# EAGLE library part 6861XX188822_686106188822 (library 68611414422)
WR-FPC 1.00 mm SMT LIF Vertical Type A KIND PROPERTIES Pitch 1 mm MATERIAL PROPERTIES Insulator Material LCP Contact Material Phosphor Bronze Contact Plating 2.032µm Tin over 1.27µm Nickel Contact Type Stamped <https://www.we-online.com/catalog/media/o162364v209%20Family_ConFPC_686126188822.jpg> Details see: https://www.we-online.com/catalog/en/em/FPC_1_00_SMT_LIF_VERTICAL_6861xx188822 Updated by Ella Wu 2020-08-25 2020(C) Wurth Elektronik
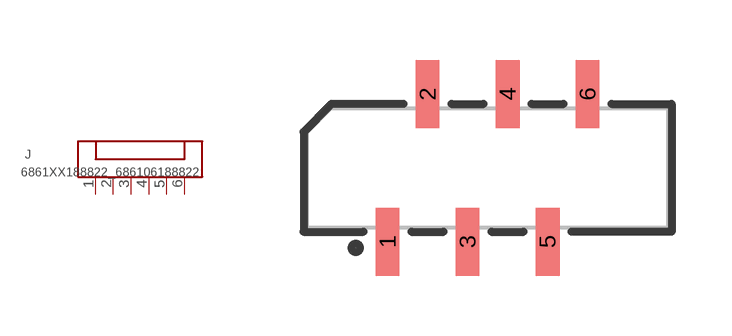
[diagram p124: symbol with the pads of 686106188822; footprint 686106188822]

Designator prefix J

## 6861XX188822_686106188822 (CONTACT-RESISTANCE: 30mOhm; DATASHEET-URL: https://www.we-online.com/catalog/datasheet/686106188822.pdf; IR: 1A; L: 9mm; PACKAGING: Tape and Reel & Mylar; PART-NUMBER: 686106188822; PINS: 6; PITCH: 1mm; TYPE: Vertical; VALUE: 686106188822; WORKING-VOLTAGE: 125V(AC))  [686106188822]
1  1  pas
2  2  pas
3  3  pas
4  4  pas
5  5  pas
6  6  pas

## Footprint 686106188822 (pad centres in mm)
WR-FPC 1.00 mm SMT LIF Vertical Type A,6 Pins
smd 0.6 x 1.7: 1 -2.5,-1.85; 2 -1.5,1.85; 3 -0.5,-1.85; 4 0.5,1.85; 5 1.5,-1.85; 6 2.5,1.85